# Altium schematic symbol library SparkFun-Connectors.SCHLIB: 365 symbols (part 1 of 8)
Pins are listed as number, name and electrical type; pins without a type are passive.

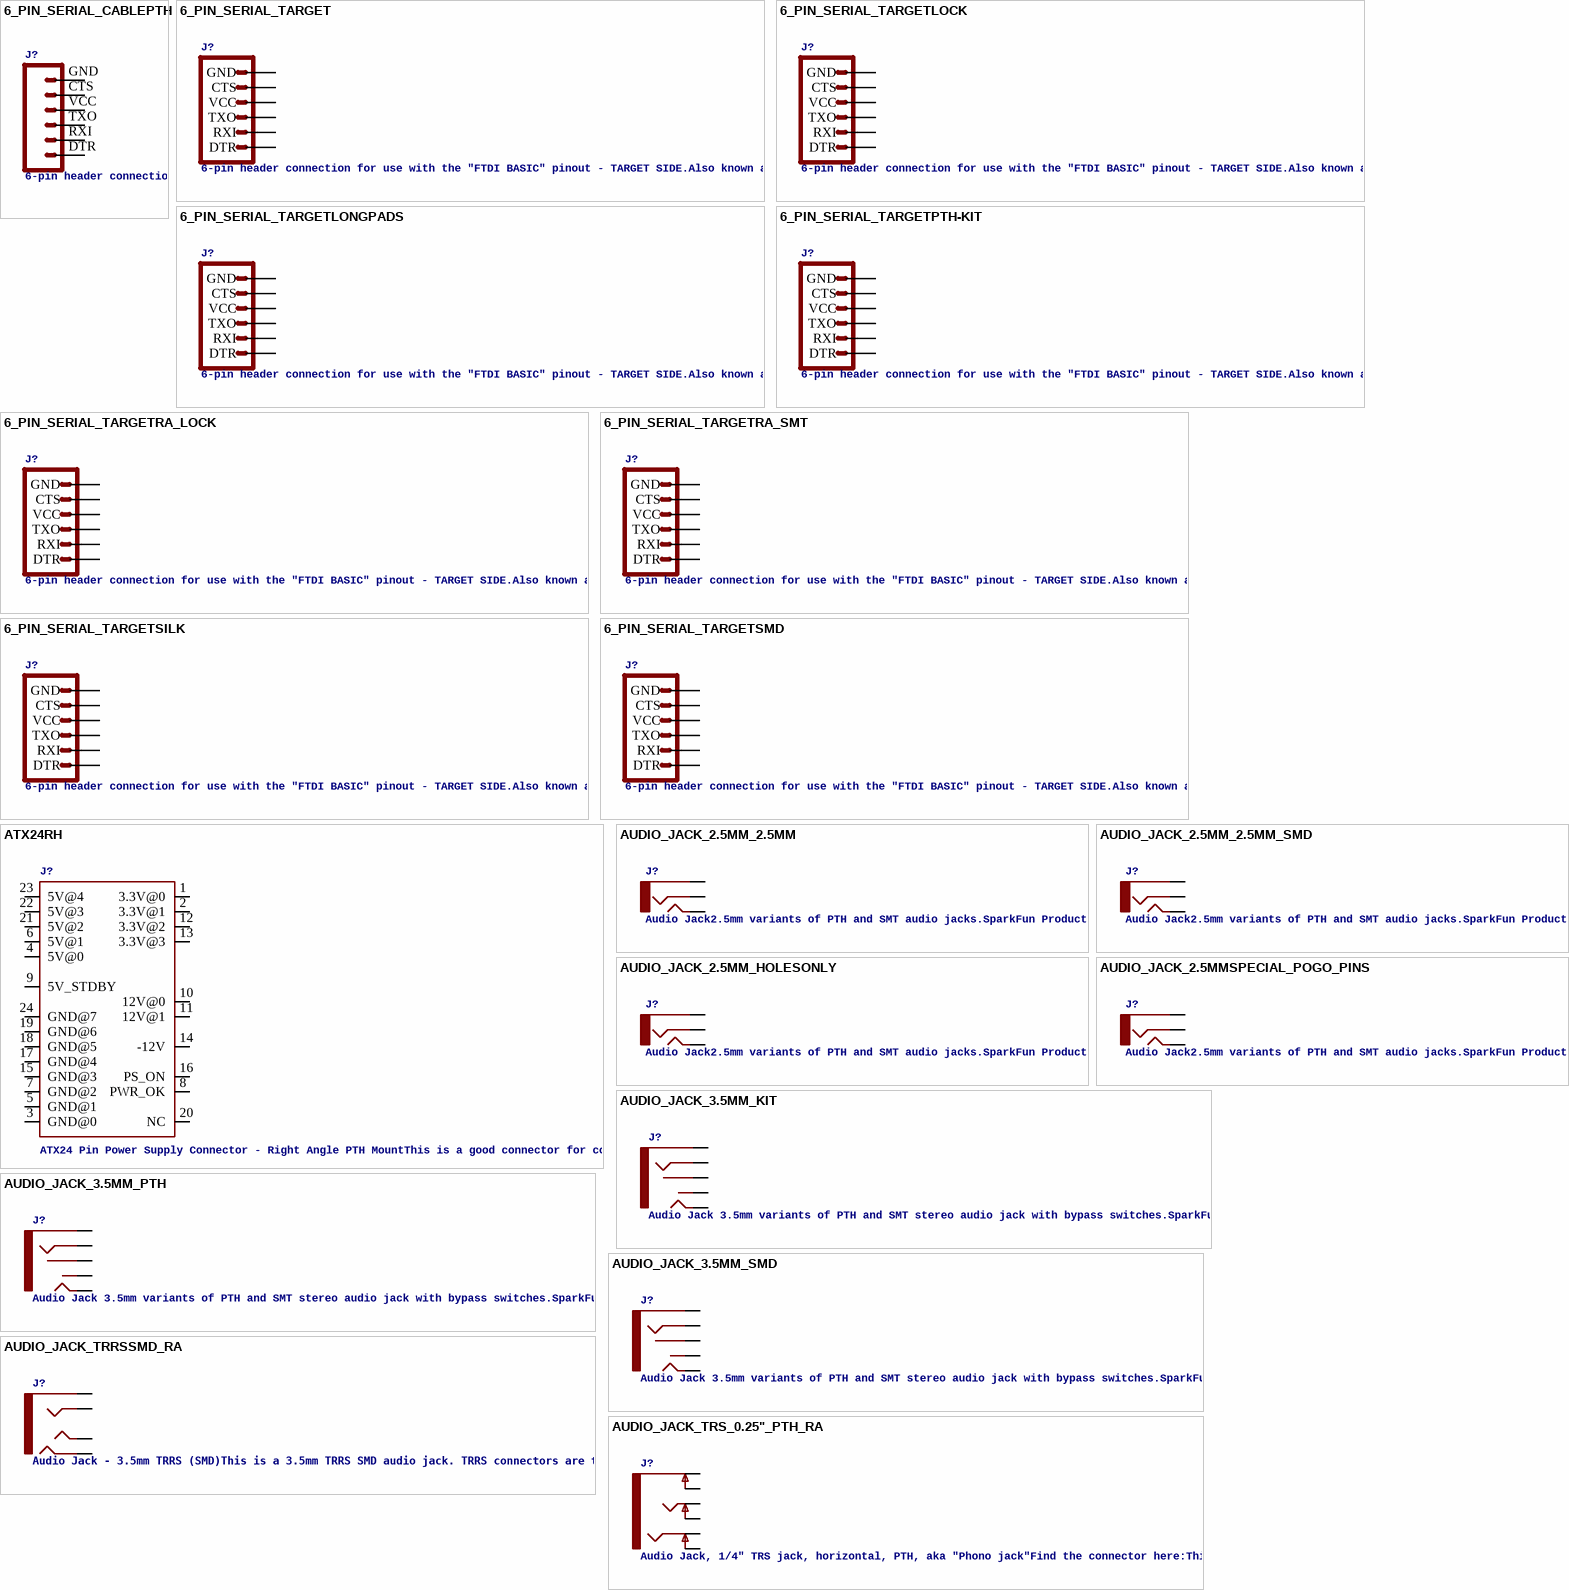
[diagram p0: symbols 6_PIN_SERIAL_CABLEPTH to AUDIO_JACK_TRS_0.25"_PTH_RA]

## 6_PIN_SERIAL_CABLEPTH
designator J?, comment 6-pin header connection for use with the "FTDI BASIC" pinout - CABLE SIDE.Also known as "Arduino Serial Program Header".This is used on a design to provide a 6-pin connection point for serial communication usually from a USB cable (D+/D-) to these headers (RX/TX). It also has the remaining pins necessary for programming in the Arduino evironment (DTR, GND, and sometimes VCC). Note, this device has "CABLE" in the name.  It is intended to be used on a design that usually lives on the end of your USB cable and prvides the converter chip (FTDI232 or FTDI231x) to commnicate serial RX/TX.  The "sister" device, named "TARGET" is inteneded to be used on a design that contains a target micro-controller that you wish to program. You can populate with some of these:For reference (or to suit your programming needs) check out these designs:
GateName_1: G$1; SymbolName_1: CONN_06; DeviceName: PTH; DeviceSetName: 6_PIN_SERIAL_CABLE; LibraryName: SparkFun-Connectors; Package: FTDI_BASIC
footprint FTDI_BASIC
pins: CTS 5, DTR 1, GND 6, RXI 2, TXO 3, VCC 4

## 6_PIN_SERIAL_TARGET
designator J?, comment 6-pin header connection for use with the "FTDI BASIC" pinout - TARGET SIDE.Also known as "Arduino Serial Program Header".It is used to mate with our FTDI Basic serial programmers using the Arduino IDE. Note, this device has "TARGET" in the name. It is intended to be used on a design that contains a target micro-controller that you wish to program. The "sister" device, named "CABLE" is inteneded to be used on a design that usually lives on the end of your USB cable and prvides the converter chip (FTDI232 or FTDI231x) to commnicate serial RX/TX. You can populate with some of these: Break Away Headers - Straight (PRT-00116)For reference (or to suit your programming needs) check out these designs:
GateName_1: G$1; SymbolName_1: ARDUINO_SERIAL_PROGRAM; DeviceSetName: 6_PIN_SERIAL_TARGET; LibraryName: SparkFun-Connectors; Package: 1X06
footprint 1X06
pins: 1 DTR, 2 RXI, 3 TXO, 4 VCC, 5 CTS, 6 GND

## 6_PIN_SERIAL_TARGETLOCK
designator J?, comment 6-pin header connection for use with the "FTDI BASIC" pinout - TARGET SIDE.Also known as "Arduino Serial Program Header".It is used to mate with our FTDI Basic serial programmers using the Arduino IDE. Note, this device has "TARGET" in the name. It is intended to be used on a design that contains a target micro-controller that you wish to program. The "sister" device, named "CABLE" is inteneded to be used on a design that usually lives on the end of your USB cable and prvides the converter chip (FTDI232 or FTDI231x) to commnicate serial RX/TX. You can populate with some of these: Break Away Headers - Straight (PRT-00116)For reference (or to suit your programming needs) check out these designs:
GateName_1: G$1; SymbolName_1: ARDUINO_SERIAL_PROGRAM; DeviceName: LOCK; DeviceSetName: 6_PIN_SERIAL_TARGET; PROD_ID: CONN-08437; LibraryName: SparkFun-Connectors; Package: 1X06_LOCK
footprint 1X06_LOCK
pins: 1 DTR, 2 RXI, 3 TXO, 4 VCC, 5 CTS, 6 GND

## 6_PIN_SERIAL_TARGETLONGPADS
designator J?, comment 6-pin header connection for use with the "FTDI BASIC" pinout - TARGET SIDE.Also known as "Arduino Serial Program Header".It is used to mate with our FTDI Basic serial programmers using the Arduino IDE. Note, this device has "TARGET" in the name. It is intended to be used on a design that contains a target micro-controller that you wish to program. The "sister" device, named "CABLE" is inteneded to be used on a design that usually lives on the end of your USB cable and prvides the converter chip (FTDI232 or FTDI231x) to commnicate serial RX/TX. You can populate with some of these: Break Away Headers - Straight (PRT-00116)For reference (or to suit your programming needs) check out these designs:
GateName_1: G$1; SymbolName_1: ARDUINO_SERIAL_PROGRAM; DeviceName: LONGPADS; DeviceSetName: 6_PIN_SERIAL_TARGET; LibraryName: SparkFun-Connectors; Package: 1X06_LONGPADS
footprint 1X06_LONGPADS
pins: 1 DTR, 2 RXI, 3 TXO, 4 VCC, 5 CTS, 6 GND

## 6_PIN_SERIAL_TARGETPTH-KIT
designator J?, comment 6-pin header connection for use with the "FTDI BASIC" pinout - TARGET SIDE.Also known as "Arduino Serial Program Header".It is used to mate with our FTDI Basic serial programmers using the Arduino IDE. Note, this device has "TARGET" in the name. It is intended to be used on a design that contains a target micro-controller that you wish to program. The "sister" device, named "CABLE" is inteneded to be used on a design that usually lives on the end of your USB cable and prvides the converter chip (FTDI232 or FTDI231x) to commnicate serial RX/TX. You can populate with some of these: Break Away Headers - Straight (PRT-00116)For reference (or to suit your programming needs) check out these designs:
GateName_1: G$1; SymbolName_1: ARDUINO_SERIAL_PROGRAM; DeviceName: PTH-KIT; DeviceSetName: 6_PIN_SERIAL_TARGET; LibraryName: SparkFun-Connectors; Package: 1X06-KIT
footprint 1X06-KIT
pins: 1 DTR, 2 RXI, 3 TXO, 4 VCC, 5 CTS, 6 GND

## 6_PIN_SERIAL_TARGETRA_LOCK
designator J?, comment 6-pin header connection for use with the "FTDI BASIC" pinout - TARGET SIDE.Also known as "Arduino Serial Program Header".It is used to mate with our FTDI Basic serial programmers using the Arduino IDE. Note, this device has "TARGET" in the name. It is intended to be used on a design that contains a target micro-controller that you wish to program. The "sister" device, named "CABLE" is inteneded to be used on a design that usually lives on the end of your USB cable and prvides the converter chip (FTDI232 or FTDI231x) to commnicate serial RX/TX. You can populate with some of these: Break Away Headers - Straight (PRT-00116)For reference (or to suit your programming needs) check out these designs:
GateName_1: G$1; SymbolName_1: ARDUINO_SERIAL_PROGRAM; DeviceName: RA_LOCK; DeviceSetName: 6_PIN_SERIAL_TARGET; LibraryName: SparkFun-Connectors; Package: MOLEX_1X6_RA_LOCK
footprint MOLEX_1X6_RA_LOCK
pins: 1 GND, 2 CTS, 3 VCC, 4 TXO, 5 RXI, 6 DTR

## 6_PIN_SERIAL_TARGETRA_SMT
designator J?, comment 6-pin header connection for use with the "FTDI BASIC" pinout - TARGET SIDE.Also known as "Arduino Serial Program Header".It is used to mate with our FTDI Basic serial programmers using the Arduino IDE. Note, this device has "TARGET" in the name. It is intended to be used on a design that contains a target micro-controller that you wish to program. The "sister" device, named "CABLE" is inteneded to be used on a design that usually lives on the end of your USB cable and prvides the converter chip (FTDI232 or FTDI231x) to commnicate serial RX/TX. You can populate with some of these: Break Away Headers - Straight (PRT-00116)For reference (or to suit your programming needs) check out these designs:
GateName_1: G$1; SymbolName_1: ARDUINO_SERIAL_PROGRAM; DeviceName: RA_SMT; DeviceSetName: 6_PIN_SERIAL_TARGET; PROD_ID: CONN-08971; LibraryName: SparkFun-Connectors; Package: 6_PIN_SERIAL_TARGET_SIDE_RA_SMT
footprint 6_PIN_SERIAL_TARGET_SIDE_RA_SMT
pins: 1 DTR, 2 TXO, 3 RXI, 4 VCC, 5 CTS, 6 GND

## 6_PIN_SERIAL_TARGETSILK
designator J?, comment 6-pin header connection for use with the "FTDI BASIC" pinout - TARGET SIDE.Also known as "Arduino Serial Program Header".It is used to mate with our FTDI Basic serial programmers using the Arduino IDE. Note, this device has "TARGET" in the name. It is intended to be used on a design that contains a target micro-controller that you wish to program. The "sister" device, named "CABLE" is inteneded to be used on a design that usually lives on the end of your USB cable and prvides the converter chip (FTDI232 or FTDI231x) to commnicate serial RX/TX. You can populate with some of these: Break Away Headers - Straight (PRT-00116)For reference (or to suit your programming needs) check out these designs:
GateName_1: G$1; SymbolName_1: ARDUINO_SERIAL_PROGRAM; DeviceName: SILK; DeviceSetName: 6_PIN_SERIAL_TARGET; LibraryName: SparkFun-Connectors; Package: 6_PIN_SERIAL_TARGET_SIDE_W_SILK
footprint 6_PIN_SERIAL_TARGET_SIDE_W_SILK
pins: P$1 DTR, P$2 TXO, P$3 RXI, P$4 VCC, P$5 CTS, P$6 GND

## 6_PIN_SERIAL_TARGETSMD
designator J?, comment 6-pin header connection for use with the "FTDI BASIC" pinout - TARGET SIDE.Also known as "Arduino Serial Program Header".It is used to mate with our FTDI Basic serial programmers using the Arduino IDE. Note, this device has "TARGET" in the name. It is intended to be used on a design that contains a target micro-controller that you wish to program. The "sister" device, named "CABLE" is inteneded to be used on a design that usually lives on the end of your USB cable and prvides the converter chip (FTDI232 or FTDI231x) to commnicate serial RX/TX. You can populate with some of these: Break Away Headers - Straight (PRT-00116)For reference (or to suit your programming needs) check out these designs:
GateName_1: G$1; SymbolName_1: ARDUINO_SERIAL_PROGRAM; DeviceName: SMD; DeviceSetName: 6_PIN_SERIAL_TARGET; PROD_ID: CONN-08971; LibraryName: SparkFun-Connectors; Package: 1X06-SMD_RA_MALE
footprint 1X06-SMD_RA_MALE
pins: 1 DTR, 2 RXI, 3 TXO, 4 VCC, 5 CTS, 6 GND

## ATX24RH
designator J?, comment ATX24 Pin Power Supply Connector - Right Angle PTH MountThis is a good connector for connecting a computer power supply to a PCB. It's massive, but provides many amps of power at 5V and 12V.SparkFun Products:
GateName_1: G$1; SymbolName_1: ATX24-1; DeviceName: RH; PROD_ID: CONN-09674; SF_ID: PRT-09498; LibraryName: SparkFun-Connectors; DeviceSetName: ATX24; Package: ATX24_RIGHT_ANGLE
footprint ATX24_RIGHT_ANGLE
pins: 1 3.3V@0, 2 3.3V@1, 3 GND@0, 4 5V@0, 5 GND@1, 6 5V@1, 7 GND@2, 8 PWR_OK, 9 5V_STDBY, 10 12V@0, 11 12V@1, 12 3.3V@2, 13 3.3V@3, 14 -12V, 15 GND@3, 16 PS_ON, 17 GND@4, 18 GND@5, 19 GND@6, 20 NC, 21 5V@2, 22 5V@3, 23 5V@4, 24 GND@7

## AUDIO_JACK_2.5MM_2.5MM
designator J?, comment Audio Jack2.5mm variants of PTH and SMT audio jacks.SparkFun Products:
GateName_1: G$1; SymbolName_1: AUDIO-JACK; DeviceName: _2.5MM; DeviceSetName: AUDIO_JACK_2.5MM; PROD_ID: CONN-09878; LibraryName: SparkFun-Connectors; Package: STEREOJACK2.5MM_STEREOJACK2.5MM
footprint STEREOJACK2.5MM_STEREOJACK2.5MM
pins: RING1 SLEEVE, SHIELD LEFT, TIP RIGHT

## AUDIO_JACK_2.5MM_2.5MM_SMD
designator J?, comment Audio Jack2.5mm variants of PTH and SMT audio jacks.SparkFun Products:
GateName_1: G$1; SymbolName_1: AUDIO-JACK; DeviceName: _2.5MM_SMD; DeviceSetName: AUDIO_JACK_2.5MM; PROD_ID: CONN-10062; LibraryName: SparkFun-Connectors; Package: STEREOJACK2.5MM
footprint STEREOJACK2.5MM
pins: 1 LEFT, 4 RIGHT, 5 SLEEVE

## AUDIO_JACK_2.5MM_HOLESONLY
designator J?, comment Audio Jack2.5mm variants of PTH and SMT audio jacks.SparkFun Products:
GateName_1: G$1; SymbolName_1: AUDIO-JACK; DeviceName: _HOLESONLY; DeviceSetName: AUDIO_JACK_2.5MM; LibraryName: SparkFun-Connectors; Package: STEREOJACK2.5MM_SPECIAL_HOLES-ONLY
footprint STEREOJACK2.5MM_SPECIAL_HOLES-ONLY
pins: RING1 SLEEVE, SHIELD LEFT, TIP RIGHT

## AUDIO_JACK_2.5MMSPECIAL_POGO_PINS
designator J?, comment Audio Jack2.5mm variants of PTH and SMT audio jacks.SparkFun Products:
GateName_1: G$1; SymbolName_1: AUDIO-JACK; DeviceName: SPECIAL_POGO_PINS; DeviceSetName: AUDIO_JACK_2.5MM; LibraryName: SparkFun-Connectors; Package: STEREOJACK2.5MM_SPECIAL_POGOPINS
footprint STEREOJACK2.5MM_SPECIAL_POGOPINS
pins: RING1 SLEEVE, SHIELD LEFT, TIP RIGHT

## AUDIO_JACK_3.5MM_KIT
designator J?, comment Audio Jack 3.5mm variants of PTH and SMT stereo audio jack with bypass switches.SparkFun Products:
GateName_1: G$1; SymbolName_1: AUDIO-JACK2; DeviceName: _KIT; DeviceSetName: AUDIO_JACK_3.5MM; PROD_ID: CONN-08774; SF_ID: PRT-08032; LibraryName: SparkFun-Connectors; Package: AUDIO-JACK-KIT
footprint AUDIO-JACK-KIT
pins: RING, RSH, SLEEVE, TIP, TSH

## AUDIO_JACK_3.5MM_PTH
designator J?, comment Audio Jack 3.5mm variants of PTH and SMT stereo audio jack with bypass switches.SparkFun Products:
GateName_1: G$1; SymbolName_1: AUDIO-JACK2; DeviceName: _PTH; DeviceSetName: AUDIO_JACK_3.5MM; PROD_ID: CONN-08774; SF_ID: PRT-08032; LibraryName: SparkFun-Connectors; Package: AUDIO-JACK
footprint AUDIO-JACK
pins: RING, RSH, SLEEVE, TIP, TSH

## AUDIO_JACK_3.5MM_SMD
designator J?, comment Audio Jack 3.5mm variants of PTH and SMT stereo audio jack with bypass switches.SparkFun Products:
GateName_1: G$1; SymbolName_1: AUDIO-JACK2; DeviceName: _SMD; DeviceSetName: AUDIO_JACK_3.5MM; PROD_ID: CONN-10353; LibraryName: SparkFun-Connectors; Package: AUDIO-JACK-3.5MM-SMD
footprint AUDIO-JACK-3.5MM-SMD
pins: RING, RSH, SLEEVE, TIP, TSH

## AUDIO_JACK_TRRSSMD_RA
designator J?, comment Audio Jack - 3.5mm TRRS (SMD)This is a 3.5mm TRRS SMD audio jack. TRRS connectors are the audio-style connectors that you see on some phones, MP3 players and development boards. TRRS stands for â€œtip, ring, ring, sleeve,â€ which reflects that this  has three conductors and a ground. SparkFun Products:
GateName_1: G$1; SymbolName_1: AUDIO-JACK3-TRRS; DeviceName: SMD_RA; DeviceSetName: AUDIO_JACK_TRRS; PROD_ID: CONN-10676; SF_ID: PRT-12639; LibraryName: SparkFun-Connectors; Package: AUDIO_JACK_3.5MM_TRRS_SMD_RA
footprint AUDIO_JACK_3.5MM_TRRS_SMD_RA
pins: EARTH, RING1, RING2, TIP

## AUDIO_JACK_TRS_0.25"_PTH_RA
designator J?, comment Audio Jack, 1/4" TRS jack, horizontal, PTH, aka "Phono jack"Find the connector here:This device is used on these SparkFun Products:
GateName_1: G$1; SymbolName_1: AUDIO-JACK4-TRS-NORMALED-GND-1; DeviceSetName: AUDIO_JACK_TRS_0.25"_PTH_RA; PROD_ID: CONN-12339; SF_ID: COM-11144; LibraryName: SparkFun-Connectors; Package: AUDIO_JACK_0.25"_TRS_PTH_RA
footprint AUDIO_JACK_0.25"_TRS_PTH_RA
pins: RING, RING-NORM, SLEEVE EARTH, SLEEVE-NORM EARTH-NORM, TIP, TIP-NORM

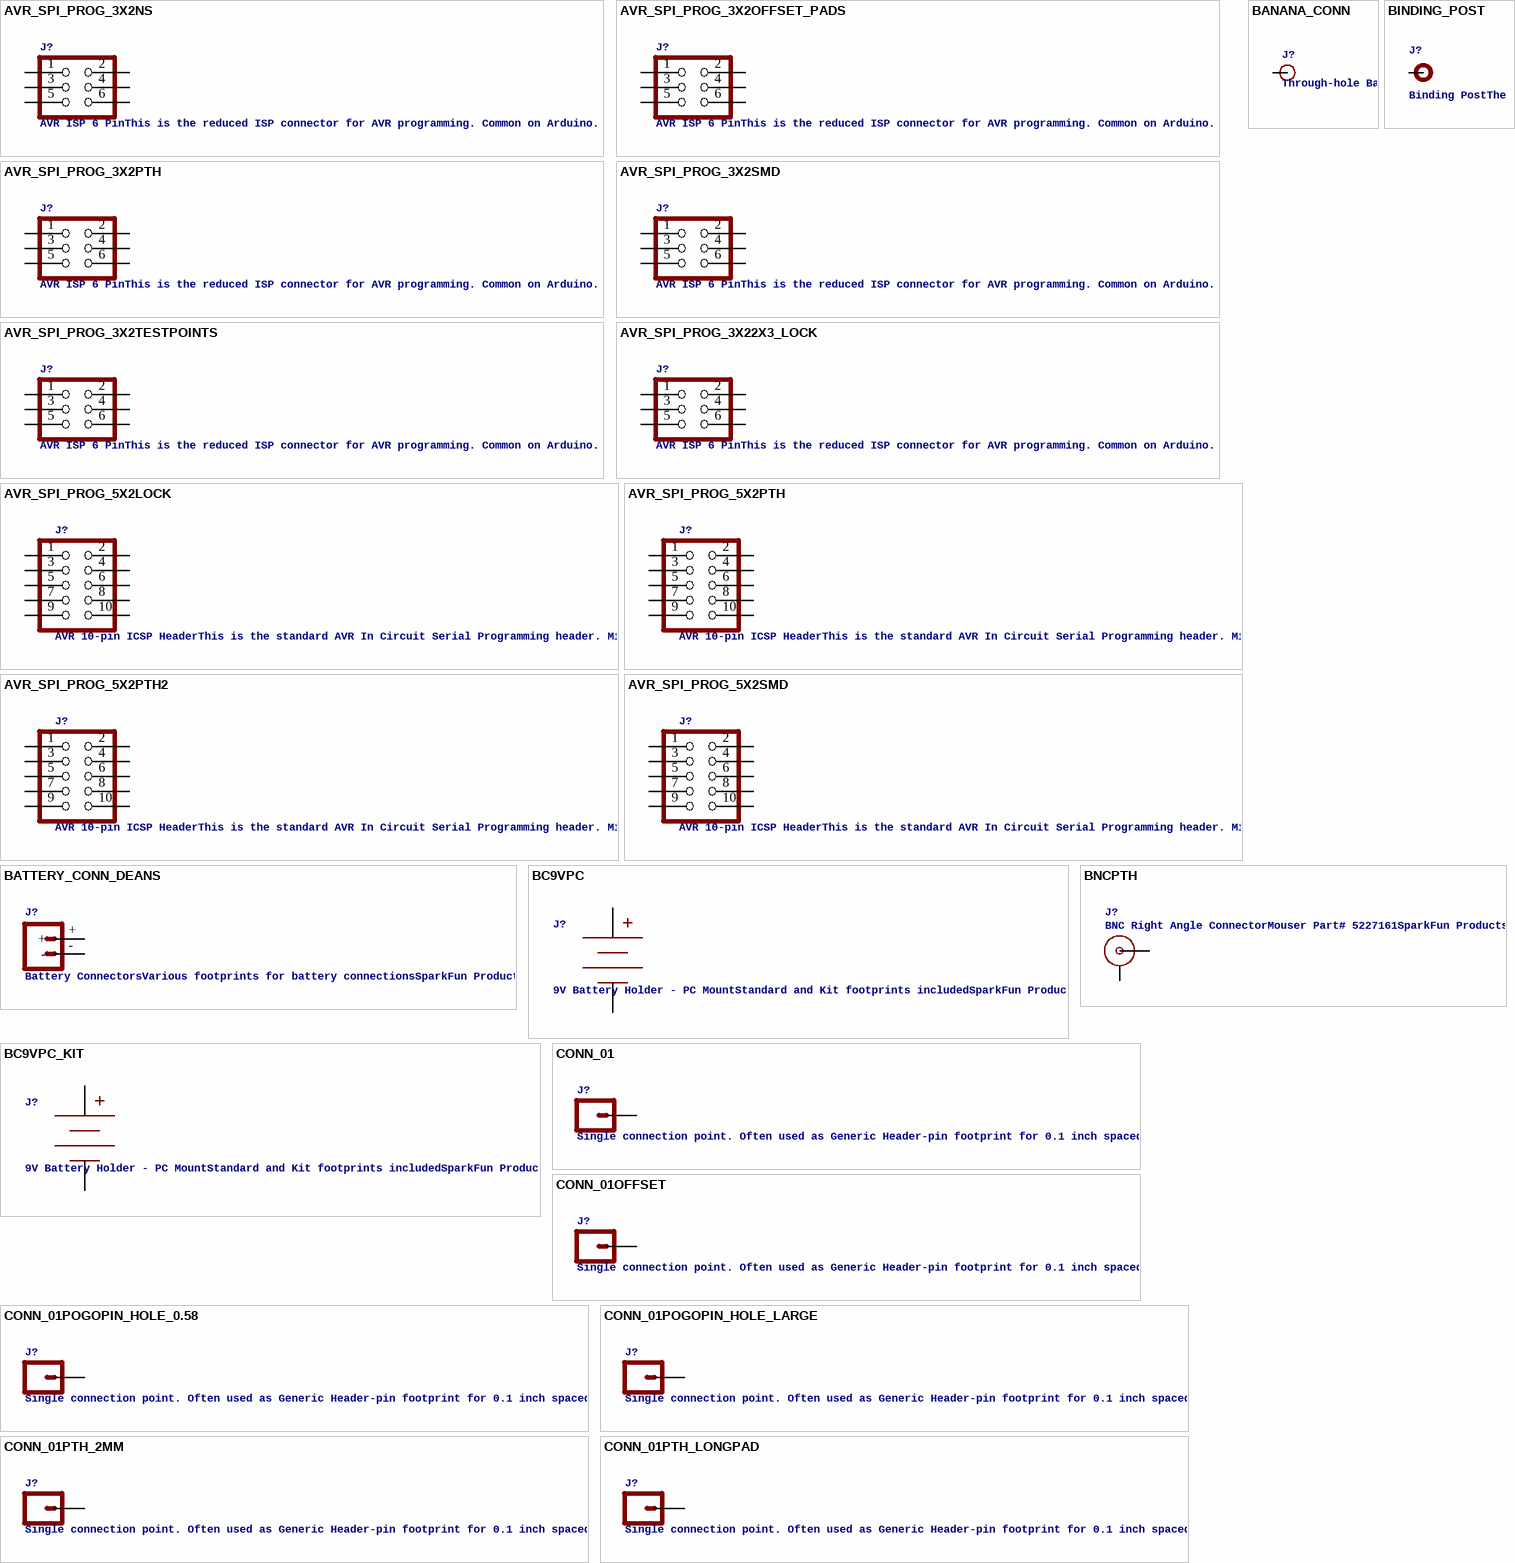
[diagram p1: symbols AVR_SPI_PROG_3X2NS to CONN_01PTH_LONGPAD]

## AVR_SPI_PROG_3X2NS
designator J?, comment AVR ISP 6 PinThis is the reduced ISP connector for AVR programming. Common on Arduino. This footprint will take up less PCB space and can be used with a 10-pin to 6-pin adapter such as SKU: BOB-08508**Special note about "TEST_POINT" package. The stop mask is on the top side, so if you want your programming test points to be on the bottom of your board, make sure to place this package on the bottom side of the board. This also ensure that the orientation to program from the bottom side will be correct.SparkFun Products:
GateName_1: G$1; SymbolName_1: AVR_SPI_PROGRAMMER_6; DeviceName: NS; DeviceSetName: AVR_SPI_PROG_3X2; LibraryName: SparkFun-Connectors; Package: 2X3-NS
footprint 2X3-NS
pins: 1, 2, 3, 4, 5, 6

## AVR_SPI_PROG_3X2OFFSET_PADS
designator J?, comment AVR ISP 6 PinThis is the reduced ISP connector for AVR programming. Common on Arduino. This footprint will take up less PCB space and can be used with a 10-pin to 6-pin adapter such as SKU: BOB-08508**Special note about "TEST_POINT" package. The stop mask is on the top side, so if you want your programming test points to be on the bottom of your board, make sure to place this package on the bottom side of the board. This also ensure that the orientation to program from the bottom side will be correct.SparkFun Products:
GateName_1: G$1; SymbolName_1: AVR_SPI_PROGRAMMER_6; DeviceName: OFFSET_PADS; DeviceSetName: AVR_SPI_PROG_3X2; LibraryName: SparkFun-Connectors; Package: 2X3_OFFSET
footprint 2X3_OFFSET
pins: 1, 2, 3, 4, 5, 6

## AVR_SPI_PROG_3X2PTH
designator J?, comment AVR ISP 6 PinThis is the reduced ISP connector for AVR programming. Common on Arduino. This footprint will take up less PCB space and can be used with a 10-pin to 6-pin adapter such as SKU: BOB-08508**Special note about "TEST_POINT" package. The stop mask is on the top side, so if you want your programming test points to be on the bottom of your board, make sure to place this package on the bottom side of the board. This also ensure that the orientation to program from the bottom side will be correct.SparkFun Products:
GateName_1: G$1; SymbolName_1: AVR_SPI_PROGRAMMER_6; DeviceName: PTH; DeviceSetName: AVR_SPI_PROG_3X2; LibraryName: SparkFun-Connectors; Package: 2X3
footprint 2X3
pins: 1, 2, 3, 4, 5, 6

## AVR_SPI_PROG_3X2SMD
designator J?, comment AVR ISP 6 PinThis is the reduced ISP connector for AVR programming. Common on Arduino. This footprint will take up less PCB space and can be used with a 10-pin to 6-pin adapter such as SKU: BOB-08508**Special note about "TEST_POINT" package. The stop mask is on the top side, so if you want your programming test points to be on the bottom of your board, make sure to place this package on the bottom side of the board. This also ensure that the orientation to program from the bottom side will be correct.SparkFun Products:
GateName_1: G$1; SymbolName_1: AVR_SPI_PROGRAMMER_6; DeviceName: SMD; DeviceSetName: AVR_SPI_PROG_3X2; LibraryName: SparkFun-Connectors; Package: 2X3_SMT_POSTS
footprint 2X3_SMT_POSTS
pins: 1, 2, 3, 4, 5, 6

## AVR_SPI_PROG_3X2TESTPOINTS
designator J?, comment AVR ISP 6 PinThis is the reduced ISP connector for AVR programming. Common on Arduino. This footprint will take up less PCB space and can be used with a 10-pin to 6-pin adapter such as SKU: BOB-08508**Special note about "TEST_POINT" package. The stop mask is on the top side, so if you want your programming test points to be on the bottom of your board, make sure to place this package on the bottom side of the board. This also ensure that the orientation to program from the bottom side will be correct.SparkFun Products:
GateName_1: G$1; SymbolName_1: AVR_SPI_PROGRAMMER_6; DeviceSetName: AVR_SPI_PROG_3X2; DeviceName: TESTPOINTS; LibraryName: SparkFun-Connectors; Package: 2X3_TEST_POINTS
footprint 2X3_TEST_POINTS
pins: 1, 2, 3, 4, 5, 6

## AVR_SPI_PROG_3X22X3_LOCK
designator J?, comment AVR ISP 6 PinThis is the reduced ISP connector for AVR programming. Common on Arduino. This footprint will take up less PCB space and can be used with a 10-pin to 6-pin adapter such as SKU: BOB-08508**Special note about "TEST_POINT" package. The stop mask is on the top side, so if you want your programming test points to be on the bottom of your board, make sure to place this package on the bottom side of the board. This also ensure that the orientation to program from the bottom side will be correct.SparkFun Products:
GateName_1: G$1; SymbolName_1: AVR_SPI_PROGRAMMER_6; DeviceName: 2X3_LOCK; DeviceSetName: AVR_SPI_PROG_3X2; LibraryName: SparkFun-Connectors; Package: 2X3_LOCK
footprint 2X3_LOCK
pins: 1, 2, 3, 4, 5, 6

## AVR_SPI_PROG_5X2LOCK
designator J?, comment AVR 10-pin ICSP HeaderThis is the standard AVR In Circuit Serial Programming header. Minimal, but includes pin one indicator. Works with standard Olimex programmers. SparkFun Products:
GateName_1: G$1; SymbolName_1: AVR_SPI_PROGRAMMER; DeviceName: LOCK; DeviceSetName: AVR_SPI_PROG_5X2; PROD_ID: CONN-08671; SF_ID: PRT-08506; LibraryName: SparkFun-Connectors; Package: 2X5-SHROUDED_LOCK
footprint 2X5-SHROUDED_LOCK
pins: 1 MOSI, 2 VCC (power), 3 NC, 4 GND@1 (power), 5 RESET, 6 GND@2 (power), 7 SCK, 8 GND@3 (power), 9 MISO, 10 GND@4 (power)

## AVR_SPI_PROG_5X2PTH
designator J?, comment AVR 10-pin ICSP HeaderThis is the standard AVR In Circuit Serial Programming header. Minimal, but includes pin one indicator. Works with standard Olimex programmers. SparkFun Products:
GateName_1: G$1; SymbolName_1: AVR_SPI_PROGRAMMER; DeviceName: PTH; DeviceSetName: AVR_SPI_PROG_5X2; LibraryName: SparkFun-Connectors; Package: 2X5
footprint 2X5
pins: 1 MOSI, 2 VCC (power), 3 NC, 4 GND@1 (power), 5 RESET, 6 GND@2 (power), 7 SCK, 8 GND@3 (power), 9 MISO, 10 GND@4 (power)

## AVR_SPI_PROG_5X2PTH2
designator J?, comment AVR 10-pin ICSP HeaderThis is the standard AVR In Circuit Serial Programming header. Minimal, but includes pin one indicator. Works with standard Olimex programmers. SparkFun Products:
GateName_1: G$1; SymbolName_1: AVR_SPI_PROGRAMMER; DeviceName: PTH2; DeviceSetName: AVR_SPI_PROG_5X2; PROD_ID: CONN-08671; SF_ID: PRT-08506; LibraryName: SparkFun-Connectors; Package: 2X5-SHROUDED
footprint 2X5-SHROUDED
pins: 1 MOSI, 2 VCC (power), 3 NC, 4 GND@1 (power), 5 RESET, 6 GND@2 (power), 7 SCK, 8 GND@3 (power), 9 MISO, 10 GND@4 (power)

## AVR_SPI_PROG_5X2SMD
designator J?, comment AVR 10-pin ICSP HeaderThis is the standard AVR In Circuit Serial Programming header. Minimal, but includes pin one indicator. Works with standard Olimex programmers. SparkFun Products:
GateName_1: G$1; SymbolName_1: AVR_SPI_PROGRAMMER; DeviceName: SMD; DeviceSetName: AVR_SPI_PROG_5X2; LibraryName: SparkFun-Connectors; Package: 2X5-SHROUDED_SMD
footprint 2X5-SHROUDED_SMD
pins: 1 MOSI, 2 VCC (power), 3 NC, 4 GND@1 (power), 5 RESET, 6 GND@2 (power), 7 SCK, 8 GND@3 (power), 9 MISO, 10 GND@4 (power)

## BANANA_CONN
designator J?, comment Through-hole Banana JackBasic PTH connection for banana jack plugsSparkFun Products:
GateName_1: G$1; SymbolName_1: BANANA_CONN; LibraryName: SparkFun-Connectors; DeviceSetName: BANANA_CONN; Package: BANANA_CONN
footprint BANANA_CONN
pins: P$1 1

## BATTERY_CONN_DEANS
designator J?, comment Battery ConnectorsVarious footprints for battery connectionsSparkFun Products:
GateName_1: G$1; SymbolName_1: BATTERY_CONN; DeviceName: _DEANS; SF_ID: PRT-11864; LibraryName: SparkFun-Connectors; DeviceSetName: BATTERY_CONN; Package: DEANS
footprint DEANS
pins: +, -

## BC9VPC
designator J?, comment 9V Battery Holder - PC MountStandard and Kit footprints includedSparkFun Products:
GateName_1: G$1; SymbolName_1: BC9VPC; PROD_ID: BATT-10855; LibraryName: SparkFun-Connectors; DeviceSetName: BC9VPC; Package: BC9VPC
footprint BC9VPC
pins: V+, V-

## BC9VPC_KIT
designator J?, comment 9V Battery Holder - PC MountStandard and Kit footprints includedSparkFun Products:
GateName_1: G$1; SymbolName_1: BC9VPC; DeviceName: _KIT; PROD_ID: BATT-10855; LibraryName: SparkFun-Connectors; DeviceSetName: BC9VPC; Package: BC9VPC_KIT
footprint BC9VPC_KIT
pins: V+, V-

## BINDING_POST
designator J?, comment Binding PostThe component itself has an threaded, insulated body that goes through the board, with a small threaded metal stud coming off the back.  The intent of this package is that the post goes through a milled obling hole, and a small wire would be used to connect from the PCB pad to the metal contact on the post. SparkFun Products:
GateName_1: G$1; SymbolName_1: BINDING_POST; PROD_ID: CONN-09675; SF_ID: PRT-09740; LibraryName: SparkFun-Connectors; DeviceSetName: BINDING_POST; Package: BINDING_POST
footprint BINDING_POST
pins: P$1

## BNCPTH
designator J?, comment BNC Right Angle ConnectorMouser Part# 5227161SparkFun Products:
GateName_1: G$1; DeviceName: PTH; PROD_ID: LPA-12729; SF_ID: PRT-10550; SymbolName_1: BNC; LibraryName: SparkFun-Connectors; DeviceSetName: BNC; Package: BNC
footprint BNC
pins: GND, S OUT

## CONN_01
designator J?, comment Single connection point. Often used as Generic Header-pin footprint for 0.1 inch spaced/style header connectionsOn any of the 0.1 inch spaced packages, you can populate with these: This device is also useful as a general connection point to wire up your design to another part of your project. Our various solder wires solder well into these plated through hole pads. Special notes: SMTSO-256-ET is a "flush mount" nut for a 4-40 screw. We mostly use this on specialty testbeds; it is a nice way to connect hardware to your PCB at an adjustable hieght. Also note, the SNAP packages are for using a snappable style connector. We sell a baggie of snaps and they are also used on two LilyPad designs:
GateName_1: G$1; SymbolName_1: CONN_01; LibraryName: SparkFun-Connectors; DeviceSetName: CONN_01; Package: 1X01
footprint 1X01
pins: 1

## CONN_01OFFSET
designator J?, comment Single connection point. Often used as Generic Header-pin footprint for 0.1 inch spaced/style header connectionsOn any of the 0.1 inch spaced packages, you can populate with these: This device is also useful as a general connection point to wire up your design to another part of your project. Our various solder wires solder well into these plated through hole pads. Special notes: SMTSO-256-ET is a "flush mount" nut for a 4-40 screw. We mostly use this on specialty testbeds; it is a nice way to connect hardware to your PCB at an adjustable hieght. Also note, the SNAP packages are for using a snappable style connector. We sell a baggie of snaps and they are also used on two LilyPad designs:
GateName_1: G$1; SymbolName_1: CONN_01; DeviceName: OFFSET; LibraryName: SparkFun-Connectors; DeviceSetName: CONN_01; Package: 1X01_OFFSET
footprint 1X01_OFFSET
pins: 1

## CONN_01POGOPIN_HOLE_0.58
designator J?, comment Single connection point. Often used as Generic Header-pin footprint for 0.1 inch spaced/style header connectionsOn any of the 0.1 inch spaced packages, you can populate with these: This device is also useful as a general connection point to wire up your design to another part of your project. Our various solder wires solder well into these plated through hole pads. Special notes: SMTSO-256-ET is a "flush mount" nut for a 4-40 screw. We mostly use this on specialty testbeds; it is a nice way to connect hardware to your PCB at an adjustable hieght. Also note, the SNAP packages are for using a snappable style connector. We sell a baggie of snaps and they are also used on two LilyPad designs:
GateName_1: G$1; SymbolName_1: CONN_01; DeviceName: POGOPIN_HOLE_0.58; LibraryName: SparkFun-Connectors; DeviceSetName: CONN_01; Package: 1X01_POGOPIN_HOLE_0.58_DIA
footprint 1X01_POGOPIN_HOLE_0.58_DIA
pins: 1

## CONN_01POGOPIN_HOLE_LARGE
designator J?, comment Single connection point. Often used as Generic Header-pin footprint for 0.1 inch spaced/style header connectionsOn any of the 0.1 inch spaced packages, you can populate with these: This device is also useful as a general connection point to wire up your design to another part of your project. Our various solder wires solder well into these plated through hole pads. Special notes: SMTSO-256-ET is a "flush mount" nut for a 4-40 screw. We mostly use this on specialty testbeds; it is a nice way to connect hardware to your PCB at an adjustable hieght. Also note, the SNAP packages are for using a snappable style connector. We sell a baggie of snaps and they are also used on two LilyPad designs:
GateName_1: G$1; SymbolName_1: CONN_01; DeviceName: POGOPIN_HOLE_LARGE; LibraryName: SparkFun-Connectors; DeviceSetName: CONN_01; Package: 1X01_POGOPIN_HOLE_0.061_DIA
footprint 1X01_POGOPIN_HOLE_0.061_DIA
pins: 1

## CONN_01PTH_2MM
designator J?, comment Single connection point. Often used as Generic Header-pin footprint for 0.1 inch spaced/style header connectionsOn any of the 0.1 inch spaced packages, you can populate with these: This device is also useful as a general connection point to wire up your design to another part of your project. Our various solder wires solder well into these plated through hole pads. Special notes: SMTSO-256-ET is a "flush mount" nut for a 4-40 screw. We mostly use this on specialty testbeds; it is a nice way to connect hardware to your PCB at an adjustable hieght. Also note, the SNAP packages are for using a snappable style connector. We sell a baggie of snaps and they are also used on two LilyPad designs:
GateName_1: G$1; SymbolName_1: CONN_01; DeviceName: PTH_2MM; LibraryName: SparkFun-Connectors; DeviceSetName: CONN_01; Package: 1X01_2MM
footprint 1X01_2MM
pins: 1

## CONN_01PTH_LONGPAD
designator J?, comment Single connection point. Often used as Generic Header-pin footprint for 0.1 inch spaced/style header connectionsOn any of the 0.1 inch spaced packages, you can populate with these: This device is also useful as a general connection point to wire up your design to another part of your project. Our various solder wires solder well into these plated through hole pads. Special notes: SMTSO-256-ET is a "flush mount" nut for a 4-40 screw. We mostly use this on specialty testbeds; it is a nice way to connect hardware to your PCB at an adjustable hieght. Also note, the SNAP packages are for using a snappable style connector. We sell a baggie of snaps and they are also used on two LilyPad designs:
GateName_1: G$1; SymbolName_1: CONN_01; DeviceName: PTH_LONGPAD; LibraryName: SparkFun-Connectors; DeviceSetName: CONN_01; Package: 1X01_LONGPAD
footprint 1X01_LONGPAD
pins: 1

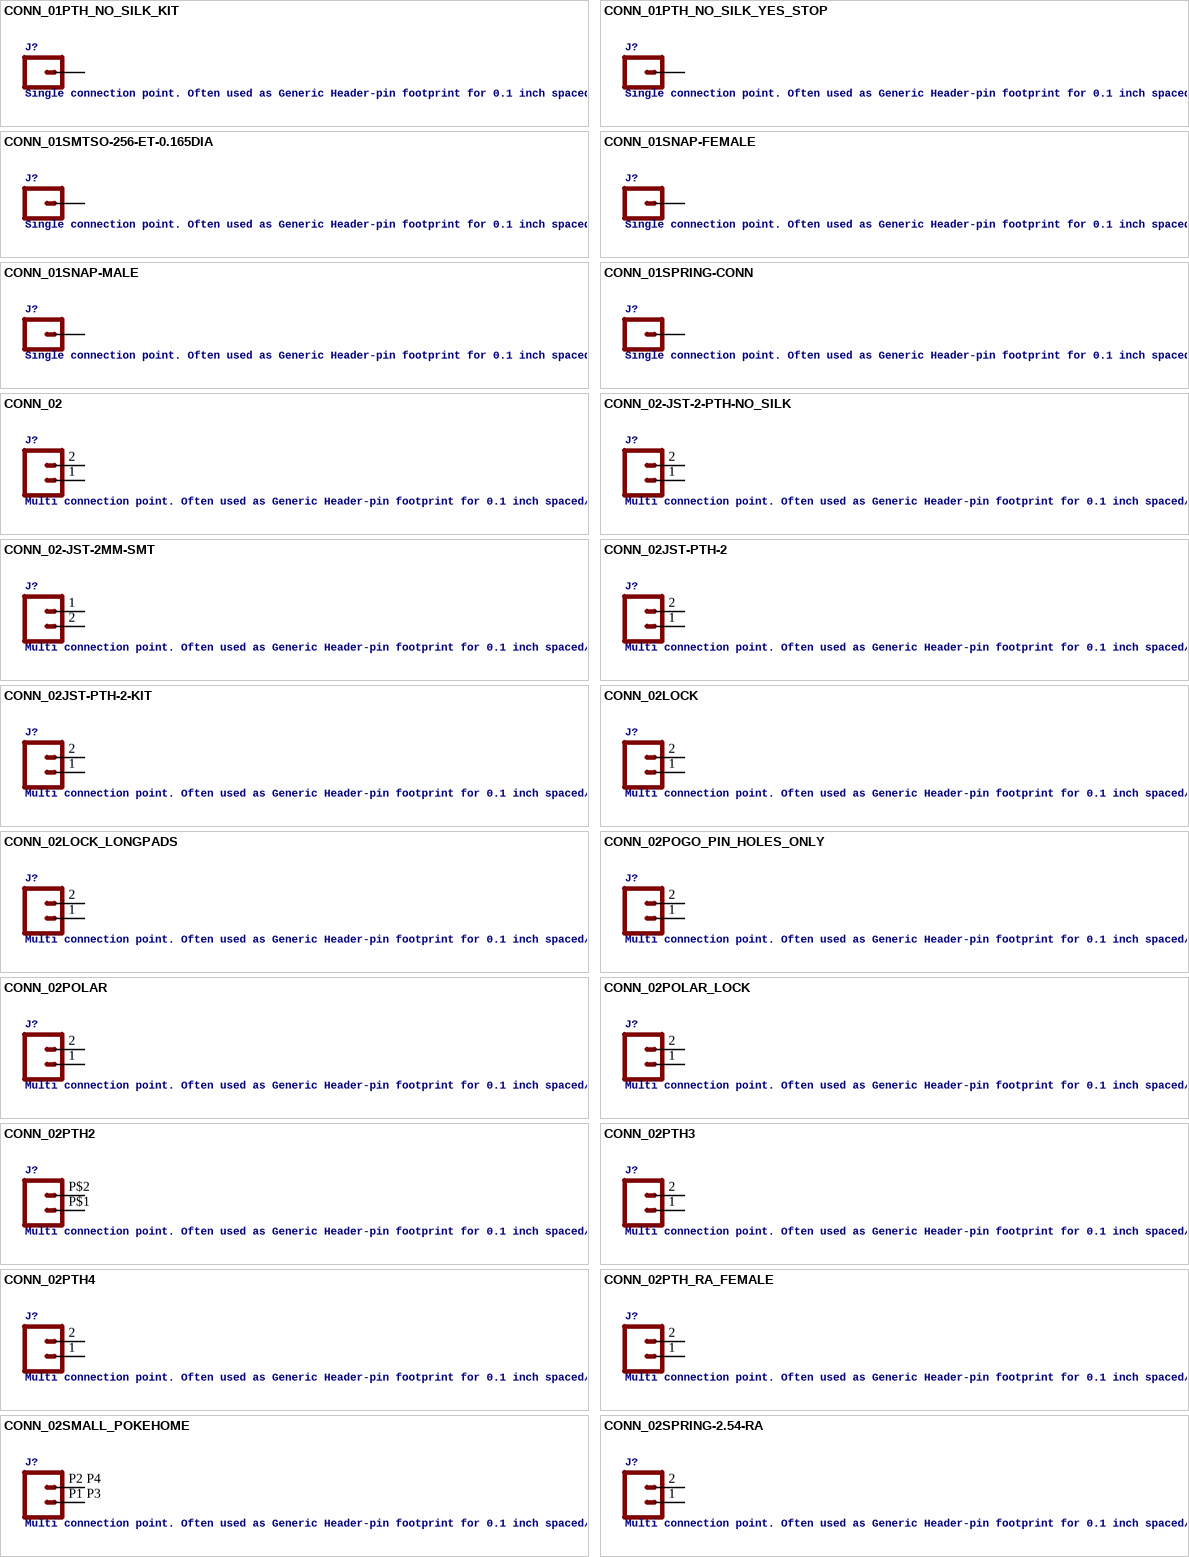
[diagram p2: symbols CONN_01PTH_NO_SILK_KIT to CONN_02SPRING-2.54-RA]

## CONN_01PTH_NO_SILK_KIT
designator J?, comment Single connection point. Often used as Generic Header-pin footprint for 0.1 inch spaced/style header connectionsOn any of the 0.1 inch spaced packages, you can populate with these: This device is also useful as a general connection point to wire up your design to another part of your project. Our various solder wires solder well into these plated through hole pads. Special notes: SMTSO-256-ET is a "flush mount" nut for a 4-40 screw. We mostly use this on specialty testbeds; it is a nice way to connect hardware to your PCB at an adjustable hieght. Also note, the SNAP packages are for using a snappable style connector. We sell a baggie of snaps and they are also used on two LilyPad designs:
GateName_1: G$1; SymbolName_1: CONN_01; DeviceName: PTH_NO_SILK_KIT; LibraryName: SparkFun-Connectors; DeviceSetName: CONN_01; Package: 1X01NS_KIT
footprint 1X01NS_KIT
pins: 1

## CONN_01PTH_NO_SILK_YES_STOP
designator J?, comment Single connection point. Often used as Generic Header-pin footprint for 0.1 inch spaced/style header connectionsOn any of the 0.1 inch spaced packages, you can populate with these: This device is also useful as a general connection point to wire up your design to another part of your project. Our various solder wires solder well into these plated through hole pads. Special notes: SMTSO-256-ET is a "flush mount" nut for a 4-40 screw. We mostly use this on specialty testbeds; it is a nice way to connect hardware to your PCB at an adjustable hieght. Also note, the SNAP packages are for using a snappable style connector. We sell a baggie of snaps and they are also used on two LilyPad designs:
GateName_1: G$1; SymbolName_1: CONN_01; DeviceName: PTH_NO_SILK_YES_STOP; LibraryName: SparkFun-Connectors; DeviceSetName: CONN_01; Package: 1X01_NO_SILK
footprint 1X01_NO_SILK
pins: 1

## CONN_01SMTSO-256-ET-0.165DIA
designator J?, comment Single connection point. Often used as Generic Header-pin footprint for 0.1 inch spaced/style header connectionsOn any of the 0.1 inch spaced packages, you can populate with these: This device is also useful as a general connection point to wire up your design to another part of your project. Our various solder wires solder well into these plated through hole pads. Special notes: SMTSO-256-ET is a "flush mount" nut for a 4-40 screw. We mostly use this on specialty testbeds; it is a nice way to connect hardware to your PCB at an adjustable hieght. Also note, the SNAP packages are for using a snappable style connector. We sell a baggie of snaps and they are also used on two LilyPad designs:
GateName_1: G$1; SymbolName_1: CONN_01; DeviceName: SMTSO-256-ET-0.165DIA; PROD_ID: HW-08694; LibraryName: SparkFun-Connectors; DeviceSetName: CONN_01; Package: SMTSO-256-ET-0.165DIA
footprint SMTSO-256-ET-0.165DIA
pins: P$1 1

## CONN_01SNAP-FEMALE
designator J?, comment Single connection point. Often used as Generic Header-pin footprint for 0.1 inch spaced/style header connectionsOn any of the 0.1 inch spaced packages, you can populate with these: This device is also useful as a general connection point to wire up your design to another part of your project. Our various solder wires solder well into these plated through hole pads. Special notes: SMTSO-256-ET is a "flush mount" nut for a 4-40 screw. We mostly use this on specialty testbeds; it is a nice way to connect hardware to your PCB at an adjustable hieght. Also note, the SNAP packages are for using a snappable style connector. We sell a baggie of snaps and they are also used on two LilyPad designs:
GateName_1: G$1; SymbolName_1: CONN_01; DeviceName: SNAP-FEMALE; LibraryName: SparkFun-Connectors; DeviceSetName: CONN_01; Package: SNAP-FEMALE
footprint SNAP-FEMALE
pins: 1

## CONN_01SNAP-MALE
designator J?, comment Single connection point. Often used as Generic Header-pin footprint for 0.1 inch spaced/style header connectionsOn any of the 0.1 inch spaced packages, you can populate with these: This device is also useful as a general connection point to wire up your design to another part of your project. Our various solder wires solder well into these plated through hole pads. Special notes: SMTSO-256-ET is a "flush mount" nut for a 4-40 screw. We mostly use this on specialty testbeds; it is a nice way to connect hardware to your PCB at an adjustable hieght. Also note, the SNAP packages are for using a snappable style connector. We sell a baggie of snaps and they are also used on two LilyPad designs:
GateName_1: G$1; SymbolName_1: CONN_01; DeviceName: SNAP-MALE; LibraryName: SparkFun-Connectors; DeviceSetName: CONN_01; Package: SNAP-MALE
footprint SNAP-MALE
pins: 2 1

## CONN_01SPRING-CONN
designator J?, comment Single connection point. Often used as Generic Header-pin footprint for 0.1 inch spaced/style header connectionsOn any of the 0.1 inch spaced packages, you can populate with these: This device is also useful as a general connection point to wire up your design to another part of your project. Our various solder wires solder well into these plated through hole pads. Special notes: SMTSO-256-ET is a "flush mount" nut for a 4-40 screw. We mostly use this on specialty testbeds; it is a nice way to connect hardware to your PCB at an adjustable hieght. Also note, the SNAP packages are for using a snappable style connector. We sell a baggie of snaps and they are also used on two LilyPad designs:
GateName_1: G$1; SymbolName_1: CONN_01; DeviceName: SPRING-CONN; SF_ID: PRT-11822; LibraryName: SparkFun-Connectors; DeviceSetName: CONN_01; Package: SPRING-CONNECTOR
footprint SPRING-CONNECTOR
pins: P$2 1

## CONN_02
designator J?, comment Multi connection point. Often used as Generic Header-pin footprint for 0.1 inch spaced/style header connectionsOn any of the 0.1 inch spaced packages, you can populate with these: For SCREWTERMINALS and SPRING TERMINALS visit here:This device is also useful as a general connection point to wire up your design to another part of your project. Our various solder wires solder well into these plated through hole pads.Special notes: Molex polarized connector foot print use with: PRT-08233 with associated crimp pins and housings.2.54_SCREWTERM for use with  PRT-10571.3.5mm Screw Terminal footprints for  PRT-080845mm Screw Terminal footprints for use with PRT-08432
GateName_1: G$1; SymbolName_1: CONN_02; LibraryName: SparkFun-Connectors; DeviceSetName: CONN_02; Package: 1X02
footprint 1X02
pins: 1, 2

## CONN_02-JST-2-PTH-NO_SILK
designator J?, comment Multi connection point. Often used as Generic Header-pin footprint for 0.1 inch spaced/style header connectionsOn any of the 0.1 inch spaced packages, you can populate with these: For SCREWTERMINALS and SPRING TERMINALS visit here:This device is also useful as a general connection point to wire up your design to another part of your project. Our various solder wires solder well into these plated through hole pads.Special notes: Molex polarized connector foot print use with: PRT-08233 with associated crimp pins and housings.2.54_SCREWTERM for use with  PRT-10571.3.5mm Screw Terminal footprints for  PRT-080845mm Screw Terminal footprints for use with PRT-08432
GateName_1: G$1; SymbolName_1: CONN_02; DeviceName: -JST-2-PTH-NO_SILK; LibraryName: SparkFun-Connectors; DeviceSetName: CONN_02; Package: JST-2-PTH-NS
footprint JST-2-PTH-NS
pins: 1, 2

## CONN_02-JST-2MM-SMT
designator J?, comment Multi connection point. Often used as Generic Header-pin footprint for 0.1 inch spaced/style header connectionsOn any of the 0.1 inch spaced packages, you can populate with these: For SCREWTERMINALS and SPRING TERMINALS visit here:This device is also useful as a general connection point to wire up your design to another part of your project. Our various solder wires solder well into these plated through hole pads.Special notes: Molex polarized connector foot print use with: PRT-08233 with associated crimp pins and housings.2.54_SCREWTERM for use with  PRT-10571.3.5mm Screw Terminal footprints for  PRT-080845mm Screw Terminal footprints for use with PRT-08432
GateName_1: G$1; SymbolName_1: CONN_02; DeviceName: -JST-2MM-SMT; PROD_ID: CONN-11443; LibraryName: SparkFun-Connectors; DeviceSetName: CONN_02; Package: JST-2-SMD
footprint JST-2-SMD
pins: 1 2, 2 1

## CONN_02JST-PTH-2
designator J?, comment Multi connection point. Often used as Generic Header-pin footprint for 0.1 inch spaced/style header connectionsOn any of the 0.1 inch spaced packages, you can populate with these: For SCREWTERMINALS and SPRING TERMINALS visit here:This device is also useful as a general connection point to wire up your design to another part of your project. Our various solder wires solder well into these plated through hole pads.Special notes: Molex polarized connector foot print use with: PRT-08233 with associated crimp pins and housings.2.54_SCREWTERM for use with  PRT-10571.3.5mm Screw Terminal footprints for  PRT-080845mm Screw Terminal footprints for use with PRT-08432
GateName_1: G$1; SymbolName_1: CONN_02; DeviceName: JST-PTH-2; PROD_ID: CONN-09863; LibraryName: SparkFun-Connectors; DeviceSetName: CONN_02; Package: JST-2-PTH; SKU: PRT-09914
footprint JST-2-PTH
pins: 1, 2

## CONN_02JST-PTH-2-KIT
designator J?, comment Multi connection point. Often used as Generic Header-pin footprint for 0.1 inch spaced/style header connectionsOn any of the 0.1 inch spaced packages, you can populate with these: For SCREWTERMINALS and SPRING TERMINALS visit here:This device is also useful as a general connection point to wire up your design to another part of your project. Our various solder wires solder well into these plated through hole pads.Special notes: Molex polarized connector foot print use with: PRT-08233 with associated crimp pins and housings.2.54_SCREWTERM for use with  PRT-10571.3.5mm Screw Terminal footprints for  PRT-080845mm Screw Terminal footprints for use with PRT-08432
GateName_1: G$1; SymbolName_1: CONN_02; DeviceName: JST-PTH-2-KIT; LibraryName: SparkFun-Connectors; DeviceSetName: CONN_02; Package: JST-2-PTH-KIT
footprint JST-2-PTH-KIT
pins: 1, 2

## CONN_02LOCK
designator J?, comment Multi connection point. Often used as Generic Header-pin footprint for 0.1 inch spaced/style header connectionsOn any of the 0.1 inch spaced packages, you can populate with these: For SCREWTERMINALS and SPRING TERMINALS visit here:This device is also useful as a general connection point to wire up your design to another part of your project. Our various solder wires solder well into these plated through hole pads.Special notes: Molex polarized connector foot print use with: PRT-08233 with associated crimp pins and housings.2.54_SCREWTERM for use with  PRT-10571.3.5mm Screw Terminal footprints for  PRT-080845mm Screw Terminal footprints for use with PRT-08432
GateName_1: G$1; SymbolName_1: CONN_02; DeviceName: LOCK; LibraryName: SparkFun-Connectors; DeviceSetName: CONN_02; Package: 1X02_LOCK
footprint 1X02_LOCK
pins: 1, 2

## CONN_02LOCK_LONGPADS
designator J?, comment Multi connection point. Often used as Generic Header-pin footprint for 0.1 inch spaced/style header connectionsOn any of the 0.1 inch spaced packages, you can populate with these: For SCREWTERMINALS and SPRING TERMINALS visit here:This device is also useful as a general connection point to wire up your design to another part of your project. Our various solder wires solder well into these plated through hole pads.Special notes: Molex polarized connector foot print use with: PRT-08233 with associated crimp pins and housings.2.54_SCREWTERM for use with  PRT-10571.3.5mm Screw Terminal footprints for  PRT-080845mm Screw Terminal footprints for use with PRT-08432
GateName_1: G$1; SymbolName_1: CONN_02; DeviceName: LOCK_LONGPADS; LibraryName: SparkFun-Connectors; DeviceSetName: CONN_02; Package: 1X02_LOCK_LONGPADS
footprint 1X02_LOCK_LONGPADS
pins: 1, 2

## CONN_02POGO_PIN_HOLES_ONLY
designator J?, comment Multi connection point. Often used as Generic Header-pin footprint for 0.1 inch spaced/style header connectionsOn any of the 0.1 inch spaced packages, you can populate with these: For SCREWTERMINALS and SPRING TERMINALS visit here:This device is also useful as a general connection point to wire up your design to another part of your project. Our various solder wires solder well into these plated through hole pads.Special notes: Molex polarized connector foot print use with: PRT-08233 with associated crimp pins and housings.2.54_SCREWTERM for use with  PRT-10571.3.5mm Screw Terminal footprints for  PRT-080845mm Screw Terminal footprints for use with PRT-08432
GateName_1: G$1; SymbolName_1: CONN_02; DeviceName: POGO_PIN_HOLES_ONLY; LibraryName: SparkFun-Connectors; DeviceSetName: CONN_02; Package: 1X02_PP_HOLES_ONLY
footprint 1X02_PP_HOLES_ONLY
pins: 1, 2

## CONN_02POLAR
designator J?, comment Multi connection point. Often used as Generic Header-pin footprint for 0.1 inch spaced/style header connectionsOn any of the 0.1 inch spaced packages, you can populate with these: For SCREWTERMINALS and SPRING TERMINALS visit here:This device is also useful as a general connection point to wire up your design to another part of your project. Our various solder wires solder well into these plated through hole pads.Special notes: Molex polarized connector foot print use with: PRT-08233 with associated crimp pins and housings.2.54_SCREWTERM for use with  PRT-10571.3.5mm Screw Terminal footprints for  PRT-080845mm Screw Terminal footprints for use with PRT-08432
GateName_1: G$1; SymbolName_1: CONN_02; DeviceName: POLAR; SF_ID: PRT-09918; LibraryName: SparkFun-Connectors; DeviceSetName: CONN_02; Package: MOLEX-1X2
footprint MOLEX-1X2
pins: 1, 2

## CONN_02POLAR_LOCK
designator J?, comment Multi connection point. Often used as Generic Header-pin footprint for 0.1 inch spaced/style header connectionsOn any of the 0.1 inch spaced packages, you can populate with these: For SCREWTERMINALS and SPRING TERMINALS visit here:This device is also useful as a general connection point to wire up your design to another part of your project. Our various solder wires solder well into these plated through hole pads.Special notes: Molex polarized connector foot print use with: PRT-08233 with associated crimp pins and housings.2.54_SCREWTERM for use with  PRT-10571.3.5mm Screw Terminal footprints for  PRT-080845mm Screw Terminal footprints for use with PRT-08432
GateName_1: G$1; SymbolName_1: CONN_02; DeviceName: POLAR_LOCK; SF_ID: PRT-09918; LibraryName: SparkFun-Connectors; DeviceSetName: CONN_02; Package: MOLEX-1X2_LOCK
footprint MOLEX-1X2_LOCK
pins: 1, 2

## CONN_02PTH2
designator J?, comment Multi connection point. Often used as Generic Header-pin footprint for 0.1 inch spaced/style header connectionsOn any of the 0.1 inch spaced packages, you can populate with these: For SCREWTERMINALS and SPRING TERMINALS visit here:This device is also useful as a general connection point to wire up your design to another part of your project. Our various solder wires solder well into these plated through hole pads.Special notes: Molex polarized connector foot print use with: PRT-08233 with associated crimp pins and housings.2.54_SCREWTERM for use with  PRT-10571.3.5mm Screw Terminal footprints for  PRT-080845mm Screw Terminal footprints for use with PRT-08432
GateName_1: G$1; SymbolName_1: CONN_02; DeviceName: PTH2; LibraryName: SparkFun-Connectors; DeviceSetName: CONN_02; Package: 1X02_BIG
footprint 1X02_BIG
pins: P$1 1, P$2 2

## CONN_02PTH3
designator J?, comment Multi connection point. Often used as Generic Header-pin footprint for 0.1 inch spaced/style header connectionsOn any of the 0.1 inch spaced packages, you can populate with these: For SCREWTERMINALS and SPRING TERMINALS visit here:This device is also useful as a general connection point to wire up your design to another part of your project. Our various solder wires solder well into these plated through hole pads.Special notes: Molex polarized connector foot print use with: PRT-08233 with associated crimp pins and housings.2.54_SCREWTERM for use with  PRT-10571.3.5mm Screw Terminal footprints for  PRT-080845mm Screw Terminal footprints for use with PRT-08432
GateName_1: G$1; SymbolName_1: CONN_02; DeviceName: PTH3; LibraryName: SparkFun-Connectors; DeviceSetName: CONN_02; Package: 1X02_LONGPADS
footprint 1X02_LONGPADS
pins: 1, 2

## CONN_02PTH4
designator J?, comment Multi connection point. Often used as Generic Header-pin footprint for 0.1 inch spaced/style header connectionsOn any of the 0.1 inch spaced packages, you can populate with these: For SCREWTERMINALS and SPRING TERMINALS visit here:This device is also useful as a general connection point to wire up your design to another part of your project. Our various solder wires solder well into these plated through hole pads.Special notes: Molex polarized connector foot print use with: PRT-08233 with associated crimp pins and housings.2.54_SCREWTERM for use with  PRT-10571.3.5mm Screw Terminal footprints for  PRT-080845mm Screw Terminal footprints for use with PRT-08432
GateName_1: G$1; SymbolName_1: CONN_02; DeviceName: PTH4; LibraryName: SparkFun-Connectors; DeviceSetName: CONN_02; Package: 1X02_XTRA_BIG
footprint 1X02_XTRA_BIG
pins: 1, 2

## CONN_02PTH_RA_FEMALE
designator J?, comment Multi connection point. Often used as Generic Header-pin footprint for 0.1 inch spaced/style header connectionsOn any of the 0.1 inch spaced packages, you can populate with these: For SCREWTERMINALS and SPRING TERMINALS visit here:This device is also useful as a general connection point to wire up your design to another part of your project. Our various solder wires solder well into these plated through hole pads.Special notes: Molex polarized connector foot print use with: PRT-08233 with associated crimp pins and housings.2.54_SCREWTERM for use with  PRT-10571.3.5mm Screw Terminal footprints for  PRT-080845mm Screw Terminal footprints for use with PRT-08432
GateName_1: G$1; SymbolName_1: CONN_02; DeviceName: PTH_RA_FEMALE; PROD_ID: CONN-13700; LibraryName: SparkFun-Connectors; DeviceSetName: CONN_02; Package: 1X02_RA_PTH_FEMALE
footprint 1X02_RA_PTH_FEMALE
pins: 1, 2

## CONN_02SMALL_POKEHOME
designator J?, comment Multi connection point. Often used as Generic Header-pin footprint for 0.1 inch spaced/style header connectionsOn any of the 0.1 inch spaced packages, you can populate with these: For SCREWTERMINALS and SPRING TERMINALS visit here:This device is also useful as a general connection point to wire up your design to another part of your project. Our various solder wires solder well into these plated through hole pads.Special notes: Molex polarized connector foot print use with: PRT-08233 with associated crimp pins and housings.2.54_SCREWTERM for use with  PRT-10571.3.5mm Screw Terminal footprints for  PRT-080845mm Screw Terminal footprints for use with PRT-08432
GateName_1: G$1; SymbolName_1: CONN_02; DeviceName: SMALL_POKEHOME; PROD_ID: CONN-13512; LibraryName: SparkFun-Connectors; DeviceSetName: CONN_02; Package: 1X02_POKEHOME
footprint 1X02_POKEHOME
pins: P1 P3 1, P2 P4 2

## CONN_02SPRING-2.54-RA
designator J?, comment Multi connection point. Often used as Generic Header-pin footprint for 0.1 inch spaced/style header connectionsOn any of the 0.1 inch spaced packages, you can populate with these: For SCREWTERMINALS and SPRING TERMINALS visit here:This device is also useful as a general connection point to wire up your design to another part of your project. Our various solder wires solder well into these plated through hole pads.Special notes: Molex polarized connector foot print use with: PRT-08233 with associated crimp pins and housings.2.54_SCREWTERM for use with  PRT-10571.3.5mm Screw Terminal footprints for  PRT-080845mm Screw Terminal footprints for use with PRT-08432
GateName_1: G$1; SymbolName_1: CONN_02; DeviceName: SPRING-2.54-RA; LibraryName: SparkFun-Connectors; DeviceSetName: CONN_02; Package: SPRINGTERMINAL-2.54MM-2
footprint SPRINGTERMINAL-2.54MM-2
pins: 1, 2

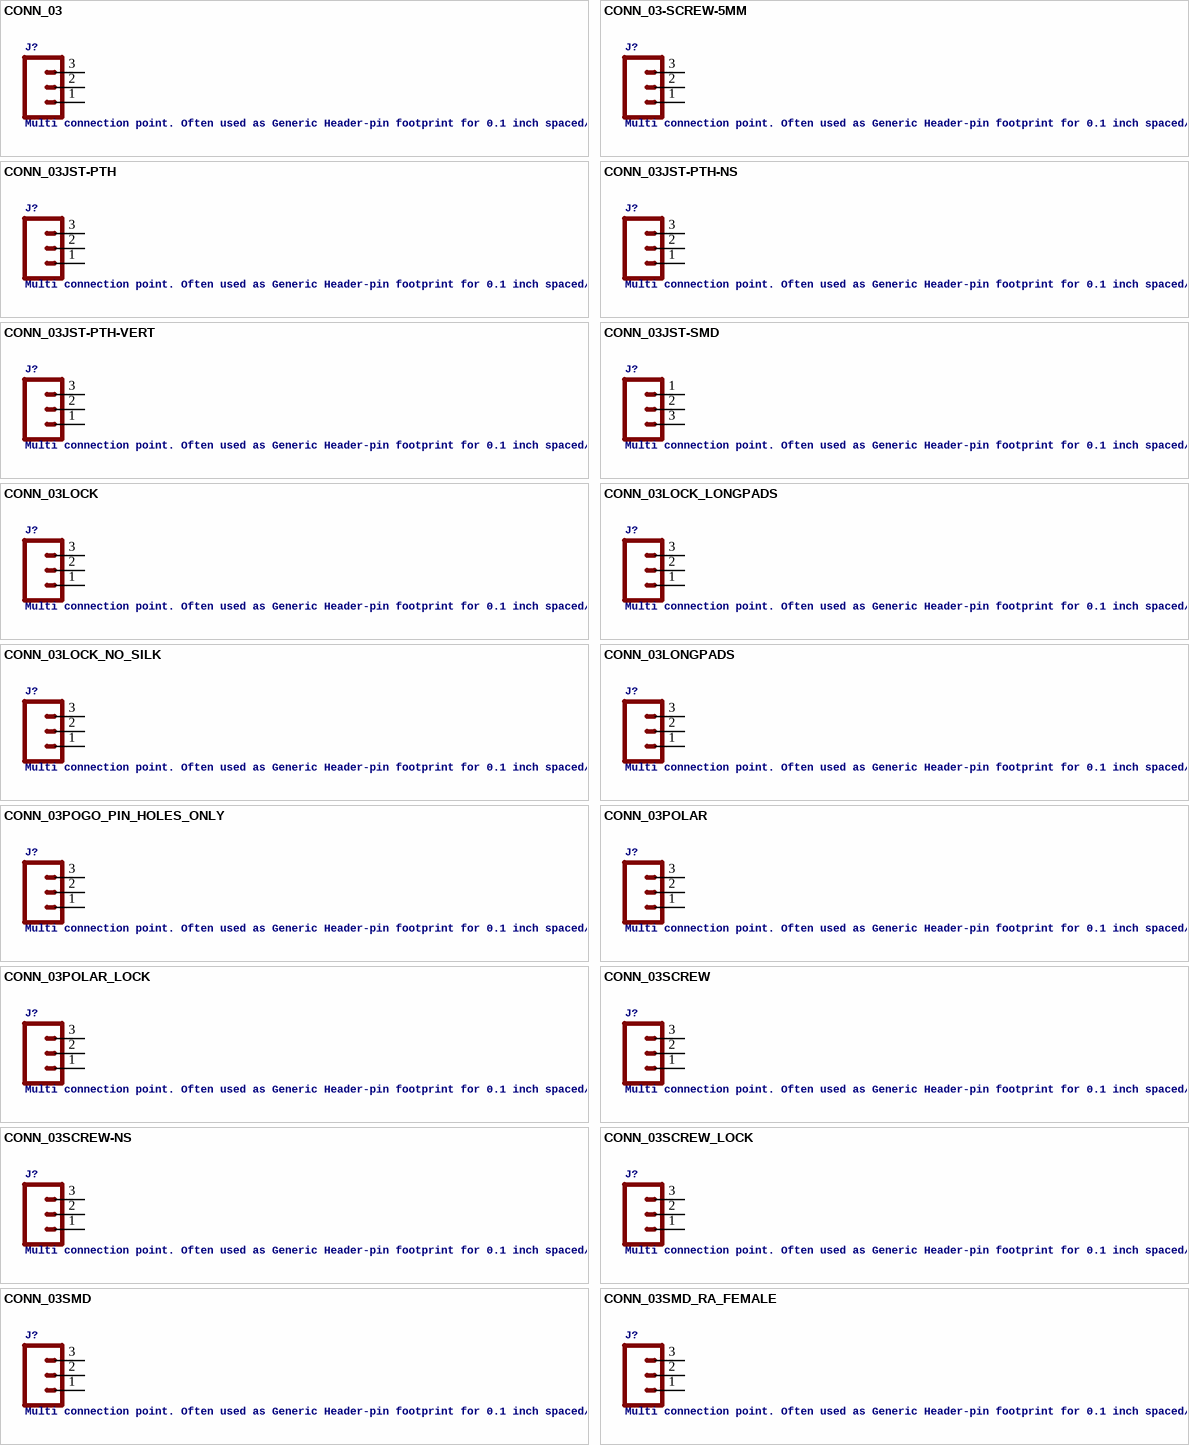
[diagram p3: symbols CONN_03 to CONN_03SMD_RA_FEMALE]

## CONN_03
designator J?, comment Multi connection point. Often used as Generic Header-pin footprint for 0.1 inch spaced/style header connectionsOn any of the 0.1 inch spaced packages, you can populate with these: For SCREWTERMINALS and SPRING TERMINALS visit here:This device is also useful as a general connection point to wire up your design to another part of your project. Our various solder wires solder well into these plated through hole pads.Special notes:   Molex polarized connector foot print use with SKU : PRT-08232 with associated crimp pins and housings.
GateName_1: J$1; SymbolName_1: CONN_03; PROD_ID: XXX-00000; LibraryName: SparkFun-Connectors; DeviceSetName: CONN_03; Package: 1X03
footprint 1X03
pins: 1, 2, 3